# EAGLE library part DS18B20 (library 1_USER)
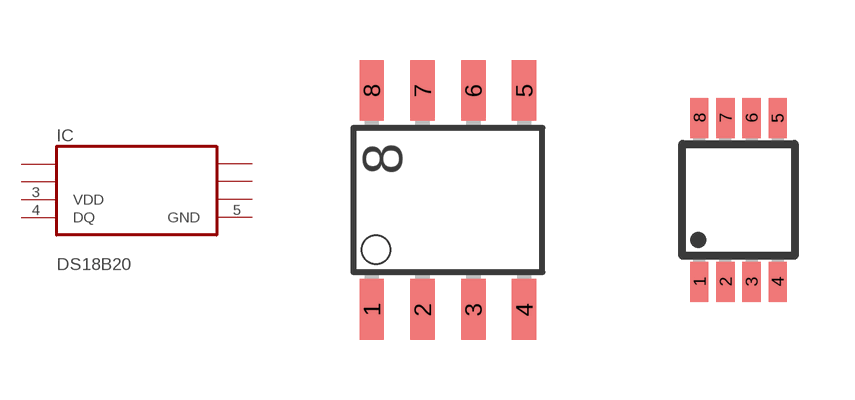
[diagram p2: symbol with the pads of SO8; footprints SO8, MSOP8]

Designator prefix IC

## DS18B20SO8  [SO8]
1  1  nc
2  2  nc
3  VDD  pwr
4  DQ
5  GND  pwr
6  6  nc
7  7  nc
8  8  nc

## DS18B20µSO8  [MSOP8]
Pads as for SO8

## Footprint SO8 (pad centres in mm)
smd 0.61 x 1.524: 1 -1.27,-2.743; 2 0,-2.743; 3 1.27,-2.743; 4 2.54,-2.743; 5 2.54,2.743; 6 1.27,2.743; 7 0,2.743; 8 -1.27,2.743

## Footprint MSOP8 (pad centres in mm)
smd 0.45 x 1: 1 -0.983,-2.058; 2 -0.333,-2.058; 3 0.318,-2.058; 4 0.968,-2.058; 5 0.968,2.042; 6 0.318,2.042; 7 -0.333,2.042; 8 -0.983,2.042